# Altium schematic symbol library LTC6820.SchLib: 4 symbols
Pins are listed as number, name and electrical type; pins without a type are passive.

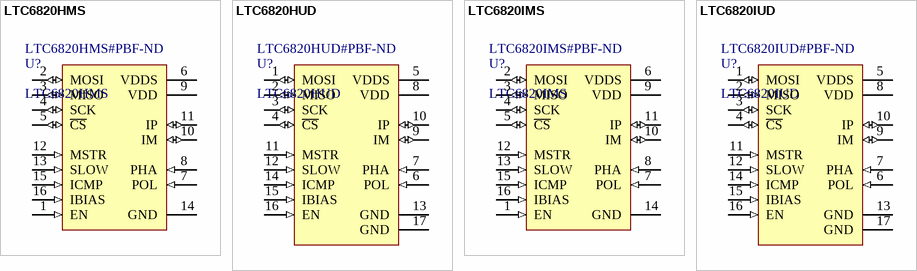
[diagram p0: symbols LTC6820HMS to LTC6820IUD]

## LTC6820HMS
designator U?  Supplier Part Number 1: LTC6820HMS#PBF-ND
Linear Technology / isoSPI Interface IC / –40°C to 125°C; Supplier 1: Digi-Key
footprint TSSOP50P490X110-16N (TSSOP, 16-Leads, Body 4.05x3.00mm, Pitch 0.50mm, IPC Medium Density)
pins: 1 EN (in), 2 MOSI (io), 3 MISO (io), 4 SCK (io), 5 ~{CS} (io), 6 VDDS (power), 7 POL (in), 8 PHA (in), 9 VDD (power), 10 IM (io), 11 IP (io), 12 MSTR (in), 13 SLOW (in), 14 GND (power), 15 ICMP (in), 16 IBIAS (in)

## LTC6820HUD
designator U?  Supplier Part Number 1: LTC6820HUD#PBF-ND
Linear Technology / isoSPI Interface IC / –40°C to 125°C; Supplier 1: Digi-Key
footprint PQFN50P300X300X80_HS-17N (PQFN, 16-Leads, Body 3.00x3.00mm, Pitch 0.50mm, Thermal Pad 1.65x1.65mm, IPC Medium Density)
pins: 1 MOSI (io), 2 MISO (io), 3 SCK (io), 4 ~{CS} (io), 5 VDDS (power), 6 POL (in), 7 PHA (in), 8 VDD (power), 9 IM (io), 10 IP (io), 11 MSTR (in), 12 SLOW (in), 13 GND (power), 14 ICMP (in), 15 IBIAS (in), 16 EN (in), 17 GND (power)

## LTC6820IMS
designator U?  Supplier Part Number 1: LTC6820IMS#PBF-ND
Linear Technology / isoSPI Interface IC / –40°C to 85°C; Supplier 1: Digi-Key
footprint TSSOP50P490X110-16N (TSSOP, 16-Leads, Body 4.05x3.00mm, Pitch 0.50mm, IPC Medium Density)
pins: 1 EN (in), 2 MOSI (io), 3 MISO (io), 4 SCK (io), 5 ~{CS} (io), 6 VDDS (power), 7 POL (in), 8 PHA (in), 9 VDD (power), 10 IM (io), 11 IP (io), 12 MSTR (in), 13 SLOW (in), 14 GND (power), 15 ICMP (in), 16 IBIAS (in)

## LTC6820IUD
designator U?  Supplier Part Number 1: LTC6820IUD#PBF-ND
Linear Technology / isoSPI Interface IC / –40°C to 85°C; Supplier 1: Digi-Key
footprint PQFN50P300X300X80_HS-17N (PQFN, 16-Leads, Body 3.00x3.00mm, Pitch 0.50mm, Thermal Pad 1.65x1.65mm, IPC Medium Density)
pins: 1 MOSI (io), 2 MISO (io), 3 SCK (io), 4 ~{CS} (io), 5 VDDS (power), 6 POL (in), 7 PHA (in), 8 VDD (power), 9 IM (io), 10 IP (io), 11 MSTR (in), 12 SLOW (in), 13 GND (power), 14 ICMP (in), 15 IBIAS (in), 16 EN (in), 17 GND (power)